# EAGLE library part FP6290 (library custom)
Boost Converter Voltage Regulator 12V 1.6A 640kHz/1.2MHz
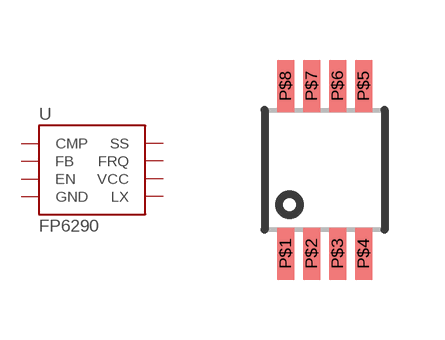
[diagram p73: symbol with the pads of 8-MSOP; footprint 8-MSOP]

Designator prefix U

## FP6290  [8-MSOP]
P$1  CMP
P$2  FB
P$3  EN
P$4  GND
P$5  LX
P$6  VCC
P$7  FRQ
P$8  SS

## Footprint 8-MSOP (pad centres in mm)
smd 0.425 x 1.3: P$1 -0.975,-2.1; P$2 -0.325,-2.1; P$3 0.325,-2.1; P$4 0.975,-2.1; P$5 0.975,2.1; P$6 0.325,2.1; P$7 -0.325,2.1; P$8 -0.975,2.1